# Altium schematic symbol library SCH - CONNECTORS - TE 828801-1.Schlib: 1 symbol
Pins are listed as number, name and electrical type; pins without a type are passive.

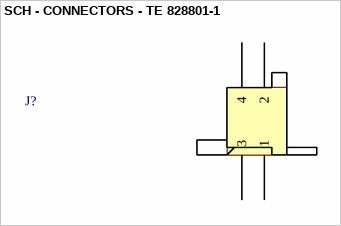
[diagram p0: symbol SCH - CONNECTORS - TE 828801-1]

## SCH - CONNECTORS - TE 828801-1
designator J?
footprint TE_828801-1 (4-pos. male conn. - left)
pins: 1, 2, 3, 4, MH1, MH2